# Altium footprint library TANTALUM.PcbLib: 6 footprints
Each footprint in its own frame and in the unit in brackets; x right, y up, seen from the top. Pads: shape width x height; smd on the part's side, far side on the other; paste and mask are expansions set on the pad; w line width, h text height; cw(c..) or ccw(c..) is an arc to the next point about the centre after c.
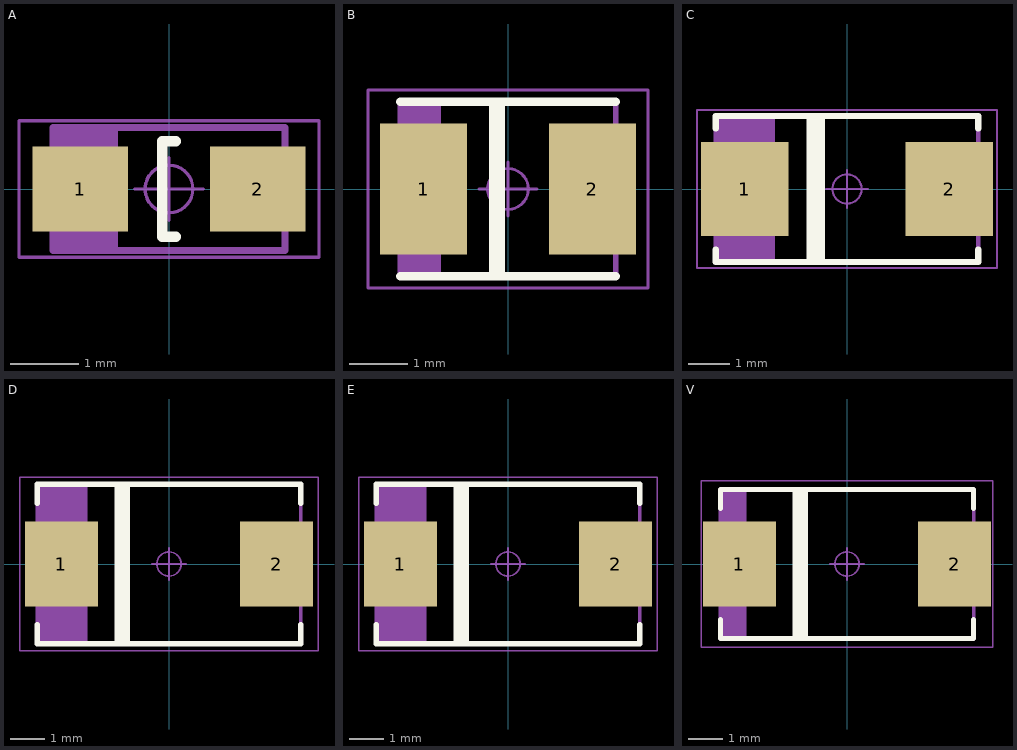
[diagram p0: the footprints below, top view; thin cyan lines are the x and y axes]

## A [mm]
pads (2):
  rect 1.4x1.25 smd: 1(-1.3,0) 2(1.3,0)
Top Overlay:
  lines w0.15: 0.1,-0.7 -0.1,-0.7 -0.1,0.7 0.1,0.7
Mechanical 14:
  lines w0.1: -1.625,-0.9 -1.625,0.9 ; -1.55,-0.9 -1.55,0.9 ; -1.475,-0.9 -1.475,0.9 ; -1.4,-0.9 -1.4,0.9 ; -1.325,-0.9 -1.325,0.9 ; -1.25,-0.9 -1.25,0.9 ; -1.175,-0.9 -1.175,0.9 ; -1.1,-0.9 -1.1,0.9 ; -1.025,-0.9 -1.025,0.9 ; -0.95,-0.9 -0.95,0.9 ; -0.875,-0.9 -0.875,0.9 ; -1.7,-0.9 -1.7,0.9 1.7,0.9 1.7,-0.9 -1.7,-0.9 ; -0.8,-0.9 -0.8,0.9 -0.8,-0.9
  text ".Designator" at -0.5,-0.3 h0.6
Mechanical 15:
  circle w0.05: c0,0 r0.35
  lines w0.05: -0.5,0 0.5,0 ; 0,-0.46 0,0.46 ; -2.2,-1 2.2,-1 2.2,1 -2.2,1 -2.2,-1
3D body "CAPMP3216X180N.stp": height 1.6, standoff 0, extent -1.7,-0.9 1.7,0.9

## B [mm]
pads (2):
  rect 1.5x2.25 smd: 1(-1.45,0) 2(1.45,0)
Top Overlay:
  lines w0.15: -1.85,-1.5 1.85,-1.5 ; -1.85,1.5 1.85,1.5 ; -0.254,-1.5 -0.254,1.5 ; -0.127,-1.5 -0.127,1.5
Mechanical 14:
  lines w0.1: -1.8,-1.5 -1.8,1.5 ; -1.725,-1.5 -1.725,1.5 ; -1.65,-1.5 -1.65,1.5 ; -1.575,-1.5 -1.575,1.5 ; -1.5,-1.5 -1.5,1.5 ; -1.425,-1.5 -1.425,1.5 ; -1.35,-1.5 -1.35,1.5 ; -1.275,-1.5 -1.275,1.5 ; -1.2,-1.5 -1.2,1.5 ; -1.85,-1.5 -1.85,1.5 1.85,1.5 1.85,-1.5 -1.85,-1.5
  text ".Designator" at -0.7,-0.3 h0.65
Mechanical 15:
  circle w0.05: c0,0 r0.35
  lines w0.05: -0.5,0 0.5,0 ; 0,-0.46 0,0.46 ; -2.4,-1.7 2.4,-1.7 2.4,1.7 -2.4,1.7 -2.4,-1.7
3D body "CAPMP3528X210N.stp": height 2.1, standoff 0, extent -1.85,-1.5 1.85,1.5

## C [mm]
pads (2):
  rect 2.1x2.25 smd: 1(-2.45,0) 2(2.45,0)
Top Overlay:
  lines w0.15: -3.15,-1.45 -3.15,-1.75 3.15,-1.75 3.15,-1.45 ; -3.15,1.45 -3.15,1.75 3.15,1.75 3.15,1.45 ; -0.9,-1.75 -0.9,1.75 ; -0.8,-1.75 -0.8,1.75 ; -0.7,-1.75 -0.7,1.75 ; -0.6,-1.75 -0.6,1.75
Mechanical 14:
  lines w0.1: -3.05,-1.725 -3.05,1.75 ; -2.975,-1.725 -2.975,1.75 ; -2.9,-1.725 -2.9,1.75 ; -2.825,-1.725 -2.825,1.75 ; -2.75,-1.725 -2.75,1.75 ; -2.675,-1.725 -2.675,1.75 ; -2.6,-1.725 -2.6,1.75 ; -2.525,-1.725 -2.525,1.75 ; -2.45,-1.725 -2.45,1.75 ; -2.375,-1.725 -2.375,1.75 ; -2.3,-1.725 -2.3,1.75 ; -2.225,-1.725 -2.225,1.75 ; -2.15,-1.725 -2.15,1.75 ; -2.075,-1.725 -2.075,1.75 ; -2,-1.725 -2,1.75 ; -1.925,-1.725 -1.925,1.75 ; -1.85,-1.725 -1.85,1.75 ; -1.775,-1.725 -1.775,1.75 ; -3.15,-1.725 -3.15,1.75 3.15,1.75 3.15,-1.725 -3.15,-1.725
  text ".Designator" at -1,-0.3 h0.7
Mechanical 15:
  circle w0.05: c0,0 r0.35
  lines w0.05: -0.5,0 0.5,0 ; 0,-0.46 0,0.46 ; -3.6,-1.9 -3.6,1.9 3.6,1.9 3.6,-1.9 -3.6,-1.9
3D body "CAPMP6032X280N.stp": height 2.8, standoff 0, extent -3.15,-1.75 3.15,1.75

## D [mm]
pads (2):
  rect 2.1x2.45 smd: 1(-3.1,0) 2(3.1,0)
Top Overlay:
  lines w0.15: -3.8,-1.75 -3.8,-2.3 3.8,-2.3 3.8,-1.75 ; -3.8,1.75 -3.8,2.3 3.8,2.3 3.8,1.75 ; -1.5,-2.3 -1.5,2.3 ; -1.4,-2.3 -1.4,2.3 ; -1.3,-2.3 -1.3,2.3 ; -1.2,-2.3 -1.2,2.3
Mechanical 14:
  lines w0.1: -3.75,-2.3 -3.75,2.3 ; -3.675,-2.3 -3.675,2.3 ; -3.6,-2.3 -3.6,2.3 ; -3.525,-2.3 -3.525,2.3 ; -3.45,-2.3 -3.45,2.3 ; -3.375,-2.3 -3.375,2.3 ; -3.3,-2.3 -3.3,2.3 ; -3.225,-2.3 -3.225,2.3 ; -3.15,-2.3 -3.15,2.3 ; -3.075,-2.3 -3.075,2.3 ; -3,-2.3 -3,2.3 ; -2.925,-2.3 -2.925,2.3 ; -2.85,-2.3 -2.85,2.3 ; -2.775,-2.3 -2.775,2.3 ; -2.7,-2.3 -2.7,2.3 ; -2.625,-2.3 -2.625,2.3 ; -2.55,-2.3 -2.55,2.3 ; -2.475,-2.3 -2.475,2.3 ; -2.4,-2.3 -2.4,2.3 ; -3.8,-2.3 3.8,-2.3 3.8,2.3 -3.8,2.3 -3.8,-2.3
  text ".Designator" at -1.3,-0.4 h0.8
Mechanical 15:
  circle w0.05: c0,0 r0.35
  lines w0.05: -0.5,0 0.5,0 ; 0,-0.46 0,0.46 ; -4.3,-2.5 4.3,-2.5 4.3,2.5 -4.3,2.5 -4.3,-2.5
3D body "CAPMP7343X310N.stp": height 3.1, standoff 0, extent -3.8,-2.3 3.8,2.3

## E [mm]
pads (2):
  rect 2.1x2.45 smd: 1(-3.1,0) 2(3.1,0)
Top Overlay:
  lines w0.15: -3.8,-1.75 -3.8,-2.3 3.8,-2.3 3.8,-1.75 ; -3.8,1.75 -3.8,2.3 3.8,2.3 3.8,1.75 ; -1.5,-2.3 -1.5,2.3 ; -1.4,-2.3 -1.4,2.3 ; -1.3,-2.3 -1.3,2.3 ; -1.2,-2.3 -1.2,2.3
Mechanical 14:
  lines w0.1: -3.7,-2.3 -3.7,2.3 ; -3.625,-2.3 -3.625,2.3 ; -3.55,-2.3 -3.55,2.3 ; -3.475,-2.3 -3.475,2.3 ; -3.4,-2.3 -3.4,2.3 ; -3.325,-2.3 -3.325,2.3 ; -3.25,-2.3 -3.25,2.3 ; -3.175,-2.3 -3.175,2.3 ; -3.1,-2.3 -3.1,2.3 ; -3.025,-2.3 -3.025,2.3 ; -2.95,-2.3 -2.95,2.3 ; -2.875,-2.3 -2.875,2.3 ; -2.8,-2.3 -2.8,2.3 ; -2.725,-2.3 -2.725,2.3 ; -2.65,-2.3 -2.65,2.3 ; -2.575,-2.3 -2.575,2.3 ; -2.5,-2.3 -2.5,2.3 ; -2.4,-2.3 -2.4,2.3 ; -3.8,-2.3 -3.8,2.3 3.8,2.3 3.8,-2.3 -3.8,-2.3
  text ".Designator" at -1.9,-0.4 h0.85
Mechanical 15:
  circle w0.05: c0,0 r0.35
  lines w0.05: -0.5,0 0.5,0 ; 0,-0.46 0,0.46 ; -4.3,-2.5 -4.3,2.5 4.3,2.5 4.3,-2.5 -4.3,-2.5
3D body "CAPMP7343X430N.stp": height 4.3, standoff 0, extent -3.8,-2.3 3.8,2.3

## V [mm]
pads (2):
  rect 2.1x2.45 smd: 1(-3.1,0) 2(3.1,0)
Top Overlay:
  lines w0.15: -3.65,-1.6 -3.65,-2.15 3.65,-2.15 3.65,-1.6 ; -3.65,1.6 -3.65,2.15 3.65,2.15 3.65,1.6 ; -1.5,-2.15 -1.5,2.15 ; -1.4,-2.15 -1.4,2.15 ; -1.3,-2.15 -1.3,2.15 ; -1.2,-2.15 -1.2,2.15
Mechanical 14:
  lines w0.1: -3.55,-2.15 -3.55,2.15 ; -3.45,-2.15 -3.45,2.15 ; -3.35,-2.15 -3.35,2.15 ; -3.25,-2.15 -3.25,2.15 ; -3.15,-2.15 -3.15,2.15 ; -3.05,-2.15 -3.05,2.15 ; -2.95,-2.15 -2.95,2.15 ; -3.65,-2.15 -3.65,2.15 ; -3.65,-2.15 -3.65,2.15 ; -3.65,-2.15 3.65,-2.15 3.65,2.15 -3.65,2.15
  text ".Designator" at -2.2,-0.4 h0.9
Mechanical 15:
  circle w0.05: c0,0 r0.35
  lines w0.05: -0.5,0 0.5,0 ; 0,-0.46 0,0.46 ; -4.2,-2.4 -4.2,2.4 4.2,2.4 4.2,-2.4 -4.2,-2.4
3D body "CAPMP7343X200N.stp": height 2, standoff 0, extent -3.8,-2.3 3.8,2.3